# Altium schematic symbol library SCH - MICROCONTROLLER - STM32G031F8P6.SchLib: 1 symbol
Pins are listed as number, name and electrical type; pins without a type are passive.

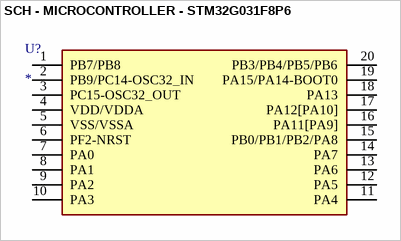
[diagram p0: symbol SCH - MICROCONTROLLER - STM32G031F8P6]

## SCH - MICROCONTROLLER - STM32G031F8P6
designator U?
Integrated Circuit; Manufacturer_Name: STMicroelectronics; Manufacturer_Part_Number: STM32G031F8P6; Datasheet Link: https://www.mouser.com/datasheet/2/389/en.DM00371828-1620887.pdf; Height: 1.2mm; Mouser Part Number: 511-STM32G031F8P6; Mouser Price/Stock: https://www.mouser.co.uk/ProductDetail/STMicroelectronics/STM32G031F8P6?qs=uwxL4vQweFPCanBqg1D5fQ%3D%3D; Arrow Part Number: STM32G031F8P6; Arrow Price/Stock: https://www.arrow.com/en/products/stm32g031f8p6/stmicroelectronics
pins: 1 PB7/PB8, 2 PB9/PC14-OSC32_IN, 3 PC15-OSC32_OUT, 4 VDD/VDDA, 5 VSS/VSSA, 6 PF2-NRST, 7 PA0, 8 PA1, 9 PA2, 10 PA3, 11 PA4, 12 PA5, 13 PA6, 14 PA7, 15 PB0/PB1/PB2/PA8, 16 PA11[PA9], 17 PA12[PA10], 18 PA13, 19 PA15/PA14-BOOT0, 20 PB3/PB4/PB5/PB6